# Altium footprint library Main.PcbLib: 25 footprints (part 1 of 2)
Each footprint in its own frame and in the unit in brackets; x right, y up, seen from the top. Pads: shape width x height; smd on the part's side, far side on the other; paste and mask are expansions set on the pad; w line width, h text height; cw(c..) or ccw(c..) is an arc to the next point about the centre after c.
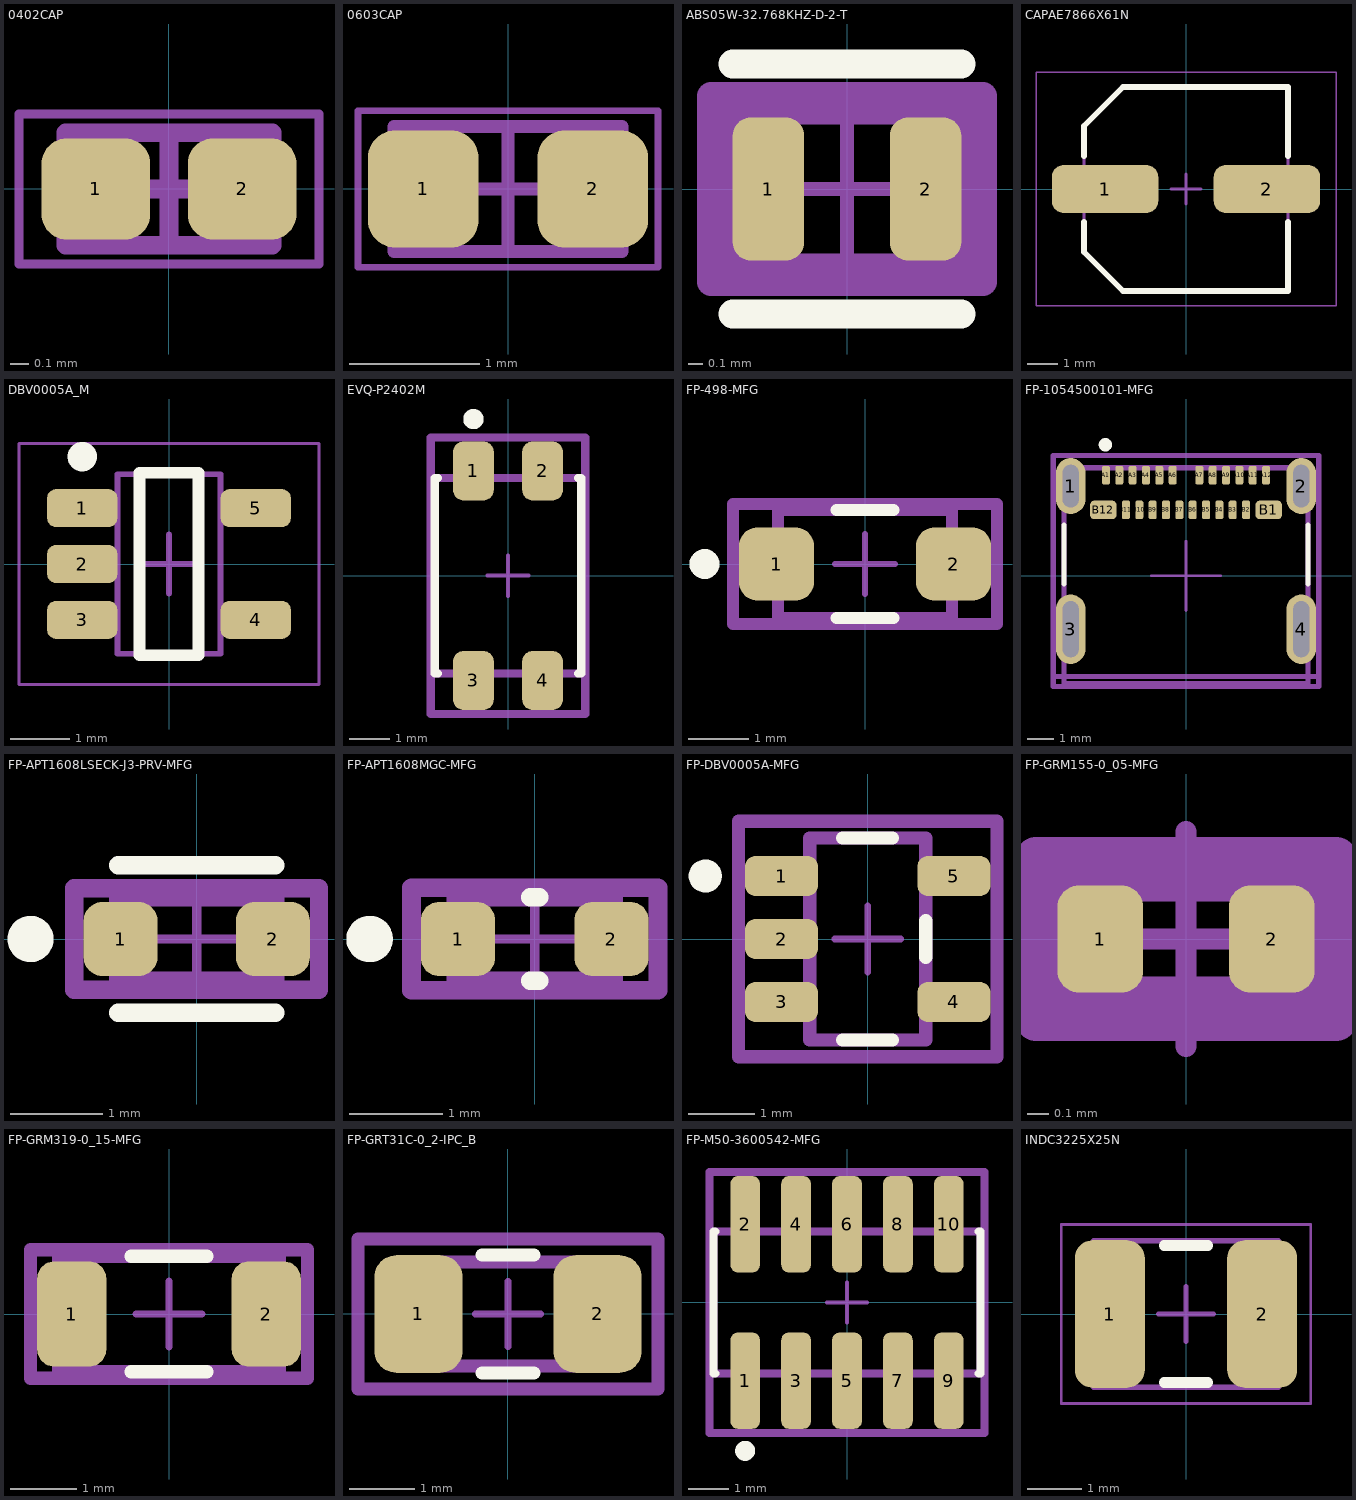
[diagram p0: the footprints below, top view; thin cyan lines are the x and y axes]

## 0402CAP [mm] "0402 Capacitor"
pads (2):
  rrect50% 0.58x0.54 smd: 1(-0.39,0) 2(0.39,0)
Mechanical 13:
  lines w0.1: -0.55,-0.3 0.55,-0.3 0.55,0.3 -0.55,0.3 -0.55,-0.3
Mechanical 15:
  lines w0.05: -0.8,-0.4 0.8,-0.4 0.8,0.4 -0.8,0.4 -0.8,-0.4
  lines w0.1: -0.3,0 0.3,0 ; 0,-0.3 0,0.3
3D body: height 0.56, standoff 0, extent 0.3,-0.3 0.55,0.3
3D body: height 0.56, standoff 0, extent -0.55,-0.3 -0.3,0.3
3D body: height 0.56, standoff 0, extent -0.3,-0.3 0.3,0.3

## 0603CAP [mm] "0603 Capacitor"
pads (2):
  rrect50% 0.85x0.9 smd: 1(-0.65,0) 2(0.65,0)
Mechanical 13:
  lines w0.1: -0.875,-0.48 -0.875,0.48 0.875,0.48 0.875,-0.48 -0.875,-0.48
Mechanical 15:
  lines w0.05: -1.15,-0.6 -1.15,0.6 1.15,0.6 1.15,-0.6 -1.15,-0.6
  lines w0.1: -0.48,0 0.48,0 ; 0,-0.48 0,0.48
3D body: height 0.9, standoff 0, extent -0.525,-0.48 0.525,0.48
3D body: height 0.9, standoff 0, extent -0.875,-0.48 -0.525,0.48
3D body: height 0.9, standoff 0, extent 0.525,-0.48 0.875,0.48

## ABS05W-32.768KHZ-D-2-T [mm]
pads (2):
  rrect50% 0.5x1 smd paste+0: 1(-0.55,0) 2(0.55,0)
Top Overlay:
  lines w0.2: -0.8,-0.875 0.8,-0.875 ; -0.8,0.875 0.8,0.875
Mechanical 5:
  lines w0.2: -0.95,-0.65 -0.95,0.65 0.95,0.65 0.95,-0.65 -0.95,-0.65
Mechanical 13:
  lines w0.2: -0.85,-0.55 -0.85,0.55 0.85,0.55 0.85,-0.55 -0.85,-0.55
Mechanical 15:
  lines w0.2: -0.95,-0.65 -0.95,0.65 0.95,0.65 0.95,-0.65 -0.95,-0.65
Mechanical 16:
  lines w0.1: -0.5,0 0.5,0 ; 0,-0.5 0,0.5
3D body "Crys_Abracon_LLC_ABS05W-32_768KHZ-D-2-T_eec.STEP": height 0.25, standoff 0, extent -0.95,-0.65 0.95,0.65

## CAPAE7866X61N [mm] "Aluminum Electrolytic Capacitor, Body 6.60x6.60x6.10mm, IPC Medium Density"
height 6.1
pads (2):
  rrect50% 3.55x1.6 smd: 1(-2.7,0) 2(2.7,0)
Top Overlay:
  lines w0.2: -3.4,-1.1 -3.4,-2.1 -2.1,-3.4 3.4,-3.4 3.4,-1.1 ; -3.4,1.1 -3.4,2.1 -2.1,3.4 3.4,3.4 3.4,1.1
Mechanical 13:
  lines w0.1: -3.4,-2.1 -2.1,-3.4 3.4,-3.4 3.4,3.4 -2.1,3.4 -3.4,2.1 -3.4,-2.1
Mechanical 15:
  lines w0.05: -5,-3.9 -5,3.9 5,3.9 5,-3.9 -5,-3.9
  lines w0.1: -0.5,0 0.5,0 ; 0,-0.5 0,0.5
3D body "CAPAE7866X61N.step": height 6.1, standoff -0.2, extent -3.9,-3.4 3.9,3.4

## DBV0005A_M [mm] "SOT23, 5-Leads, Body 3.05x1.75mm, Pitch 0.95mm, IPC Low Density"
height 1.45
pads (5):
  rrect50% 1.2x0.65 smd: 1(-1.475,0.95) 2(-1.475,0) 3(-1.475,-0.95) 4(1.475,-0.95) 5(1.475,0.95)
Top Overlay:
  circle w0.25: c-1.475,1.825 r0.125
  lines w0.2: -0.5,-1.55 -0.5,1.55 0.5,1.55 0.5,-1.55 -0.5,-1.55
Mechanical 13:
  lines w0.1: -0.875,-1.525 0.875,-1.525 0.875,1.525 -0.875,1.525 -0.875,-1.525
Mechanical 15:
  lines w0.05: -2.55,-2.05 2.55,-2.05 2.55,2.05 -2.55,2.05 -2.55,-2.05
  lines w0.1: -0.5,0 0.5,0 ; 0,-0.5 0,0.5
3D body "DBV0005AaksMF05A.stp": height 1.08, standoff -0.01, extent -1.422,-1.461 1.422,1.46

## EVQ-P2402M [mm] "Tactile Switch"
pads (4):
  rrect50% 1x1.45 smd paste+0: 1(-0.85,2.575) 2(0.85,2.575) 3(-0.85,-2.575) 4(0.85,-2.575)
Top Overlay:
  circle w0.25: c-0.85,3.85 r0.125
  lines w0.2: -1.725,-2.4 -1.8,-2.4 -1.8,2.4 -1.725,2.4 ; 1.725,-2.4 1.8,-2.4 1.8,2.4 1.725,2.4
Mechanical 5:
  lines w0.2: -1.9,-3.4 1.9,-3.4 1.9,3.4 -1.9,3.4 -1.9,-3.4
Mechanical 13:
  lines w0.2: -1.8,-2.4 1.8,-2.4 1.8,2.4 -1.8,2.4 -1.8,-2.4
Mechanical 15:
  lines w0.2: -1.9,-3.4 1.9,-3.4 1.9,3.4 -1.9,3.4 -1.9,-3.4
Mechanical 16:
  lines w0.1: -0.5,0 0.5,0 ; 0,-0.5 0,0.5
3D body "Switch_Panasonic_Electronic_Components_EVQ-P2402M_eec.STEP": height 0.25, standoff 0, extent -1.9,-3.4 1.9,3.4

## FP-498-MFG [mm]
pads (2):
  rrect50% 1.25x1.22 smd paste+0: 1(-1.475,0) 2(1.475,0)
Top Overlay:
  circle w0.25: c-2.675,0 r0.125
  lines w0.2: -0.475,-0.9 0.475,-0.9 ; -0.475,0.9 0.475,0.9
Mechanical 5:
  lines w0.2: -2.2,-1 2.2,-1 2.2,1 -2.2,1 -2.2,-1
Mechanical 13:
  lines w0.2: -1.45,-0.9 1.45,-0.9 1.45,0.9 -1.45,0.9 -1.45,-0.9
Mechanical 15:
  lines w0.2: -2.2,-1 2.2,-1 2.2,1 -2.2,1 -2.2,-1
Mechanical 16:
  lines w0.1: -0.5,0 0.5,0 ; 0,-0.5 0,0.5
3D body "Diode_ON_Semiconductor_NRVTS245ESFT1G_eec.STEP": height 0.25, standoff 0, extent -2.2,-1 2.2,1

## FP-1054500101-MFG [mm]
pads (28):
  rrect100% 1.1x2.1 hole 1.6 slot 0.6 at 0 deg: 1(-4.32,3.36) 2(4.32,3.36)
  rrect100% 1.1x2.6 hole 2.1 slot 0.6 at 0 deg: 3(-4.32,-2) 4(4.32,-2)
  rrect50% 0.3x0.7 smd: A1(-3,3.77) A2(-2.5,3.77) A3(-2,3.77) A4(-1.5,3.77) A5(-1,3.77) A6(-0.5,3.77) A7(0.5,3.77) A8(1,3.77) A9(1.5,3.77) A10(2,3.77) A11(2.5,3.77) A12(3,3.77) B2(2.25,2.47) B3(1.75,2.47) B4(1.25,2.47) B5(0.75,2.47) B6(0.25,2.47) B7(-0.25,2.47) B8(-0.75,2.47) B9(-1.25,2.47) B10(-1.75,2.47) B11(-2.25,2.47)
  rrect50% 1x0.7 smd: B1(3.1,2.47) B12(-3.1,2.47)
Top Overlay:
  circle w0.25: c-3.02,4.91 r0.125
  lines w0.2: -4.57,-0.3 -4.57,1.9 ; 4.57,-0.3 4.57,1.9
Mechanical 5:
  lines w0.2: -4.97,-4.15 4.97,-4.15 4.97,4.51 -4.97,4.51 -4.97,-4.15
Mechanical 13:
  lines w0.2: -4.97,-3.77 4.97,-3.77 ; -4.57,-4.05 4.57,-4.05 4.57,4.05 -4.57,4.05 -4.57,-4.05
Mechanical 15:
  lines w0.2: -4.97,-4.15 4.97,-4.15 4.97,4.51 -4.97,4.51 -4.97,-4.15
Mechanical 16:
  lines w0.1: -1.299,0 1.299,0 ; 0,-1.299 0,1.299
3D body "1054500101.stp": height 3.23, standoff -0.73, extent -4.47,-3.9 4.47,4

## FP-APT1608LSECK-J3-PRV-MFG [mm]
pads (2):
  rrect50% 0.8x0.8 smd paste+0: 1(-0.825,0) 2(0.825,0)
Top Overlay:
  circle w0.25: c-1.8,0 r0.125
  lines w0.2: -0.85,-0.8 0.85,-0.8 ; -0.85,0.8 0.85,0.8
Mechanical 5:
  lines w0.2: -1.325,-0.55 1.325,-0.55 1.325,0.55 -1.325,0.55 -1.325,-0.55
Mechanical 13:
  lines w0.2: -0.85,-0.45 0.85,-0.45 0.85,0.45 -0.85,0.45 -0.85,-0.45
Mechanical 15:
  lines w0.2: -1.325,-0.55 1.325,-0.55 1.325,0.55 -1.325,0.55 -1.325,-0.55
Mechanical 16:
  lines w0.1: -0.5,0 0.5,0 ; 0,-0.5 0,0.5
3D body "Diode_Kingbright_APT1608LSECK-J3-PRV_eec.STEP": height 0.25, standoff 0, extent -1.325,-0.55 1.325,0.55

## FP-APT1608MGC-MFG [mm]
pads (2):
  rrect50% 0.8x0.8 smd paste+0 mask+0: 1(-0.825,0) 2(0.825,0)
Top Overlay:
  circle w0.25: c-1.775,0 r0.125
  lines w0.2: -0.05,-0.45 0.05,-0.45 ; -0.05,0.45 0.05,0.45
Mechanical 5:
  lines w0.2: -1.325,-0.55 1.325,-0.55 1.325,0.55 -1.325,0.55 -1.325,-0.55
Mechanical 13:
  lines w0.2: -0.85,-0.45 0.85,-0.45 0.85,0.45 -0.85,0.45 -0.85,-0.45
Mechanical 15:
  lines w0.2: -1.325,-0.55 1.325,-0.55 1.325,0.55 -1.325,0.55 -1.325,-0.55
Mechanical 16:
  lines w0.1: -0.5,0 0.5,0 ; 0,-0.5 0,0.5
3D body "Diode_Kingbright_APT1608MGC_eec.STEP": height 0.25, standoff 0, extent -1.325,-0.55 1.325,0.55

## FP-DBV0005A-MFG [mm]
pads (5):
  rrect50% 1.1x0.6 smd paste+0 mask+0: 1(-1.3,0.95) 2(-1.3,0) 3(-1.3,-0.95) 4(1.3,-0.95) 5(1.3,0.95)
Top Overlay:
  circle w0.25: c-2.45,0.95 r0.125
  lines w0.2: -0.375,-1.525 0.375,-1.525 ; -0.375,1.525 0.375,1.525 ; 0.875,-0.275 0.875,0.275
Mechanical 5:
  lines w0.2: -1.95,-1.775 1.95,-1.775 1.95,1.775 -1.95,1.775 -1.95,-1.775
Mechanical 13:
  lines w0.2: -0.875,-1.525 0.875,-1.525 0.875,1.525 -0.875,1.525 -0.875,-1.525
Mechanical 15:
  lines w0.2: -1.95,-1.775 1.95,-1.775 1.95,1.775 -1.95,1.775 -1.95,-1.775
Mechanical 16:
  lines w0.1: -0.5,0 0.5,0 ; 0,-0.5 0,0.5
3D body "IC_Texas_Instruments_SN65LVDT2DBVT_eec.STEP": height 0.25, standoff 0, extent -1.95,-1.775 1.95,1.775

## FP-GRM155-0_05-MFG [mm]
pads (2):
  rrect50% 0.4x0.5 smd paste+0 mask+0: 1(-0.4,0) 2(0.4,0)
Mechanical 5:
  lines w0.2: -0.7,-0.375 -0.7,0.375 0.7,0.375 0.7,-0.375 -0.7,-0.375
Mechanical 13:
  lines w0.2: -0.525,-0.275 -0.525,0.275 0.525,0.275 0.525,-0.275 -0.525,-0.275
Mechanical 15:
  lines w0.2: -0.7,-0.375 -0.7,0.375 0.7,0.375 0.7,-0.375 -0.7,-0.375
Mechanical 16:
  lines w0.1: -0.5,0 0.5,0 ; 0,-0.5 0,0.5
3D body "Cap_Murata_GRM1552C1H271GA01J_eec.STEP": height 0.25, standoff 0, extent -0.7,-0.375 0.7,0.375

## FP-GRM319-0_15-MFG [mm]
pads (2):
  rrect50% 1.05x1.6 smd paste+0 mask+0: 1(-1.475,0) 2(1.475,0)
Top Overlay:
  lines w0.2: -0.575,-0.875 0.575,-0.875 ; -0.575,0.875 0.575,0.875
Mechanical 5:
  lines w0.2: -2.1,-0.975 -2.1,0.975 2.1,0.975 2.1,-0.975 -2.1,-0.975
Mechanical 13:
  lines w0.2: -1.675,-0.875 -1.675,0.875 1.675,0.875 1.675,-0.875 -1.675,-0.875
Mechanical 15:
  lines w0.2: -2.1,-0.975 -2.1,0.975 2.1,0.975 2.1,-0.975 -2.1,-0.975
Mechanical 16:
  lines w0.1: -0.5,0 0.5,0 ; 0,-0.5 0,0.5
3D body "Cap_Murata_GRM3195C1H273JA01D_eec.STEP": height 0.25, standoff 0, extent -2.1,-0.975 2.1,0.975

## FP-GRT31C-0_2-IPC_B [mm]
pads (2):
  rrect50% 1.355x1.806 smd paste+0 mask+0: 1(-1.376,0) 2(1.376,0)
Top Overlay:
  lines w0.2: -0.398,-0.903 0.398,-0.903 ; -0.398,0.903 0.398,0.903
Mechanical 5:
  lines w0.2: -2.303,-1.153 2.303,-1.153 2.303,1.153 -2.303,1.153 -2.303,-1.153
Mechanical 13:
  lines w0.2: -1.6,-0.8 1.6,-0.8 1.6,0.8 -1.6,0.8 -1.6,-0.8
Mechanical 15:
  lines w0.2: -2.303,-1.153 2.303,-1.153 2.303,1.153 -2.303,1.153 -2.303,-1.153
Mechanical 16:
  lines w0.1: -0.5,0 0.5,0 ; 0,-0.5 0,0.5
3D body "Cap_Murata_GRT31CC80J476KE13L_eec.STEP": height 0.25, standoff 0, extent -2.303,-1.153 2.303,1.153

## FP-M50-3600542-MFG [mm]
pads (10):
  rrect50% 0.74x2.4 smd paste+0 mask+0: 1(-2.54,-1.95) 2(-2.54,1.95) 3(-1.27,-1.95) 4(-1.27,1.95) 5(0,-1.95) 6(0,1.95) 7(1.27,-1.95) 8(1.27,1.95) 9(2.54,-1.95) 10(2.54,1.95)
Top Overlay:
  circle w0.25: c-2.54,-3.7 r0.125
  lines w0.2: -3.285,-1.775 -3.325,-1.775 -3.325,1.775 -3.285,1.775 ; 3.285,-1.775 3.325,-1.775 3.325,1.775 3.285,1.775
Mechanical 5:
  lines w0.2: -3.425,-3.25 -3.425,3.25 3.425,3.25 3.425,-3.25 -3.425,-3.25
Mechanical 13:
  lines w0.2: -3.325,-1.775 -3.325,1.775 3.325,1.775 3.325,-1.775 -3.325,-1.775
Mechanical 15:
  lines w0.2: -3.425,-3.25 -3.425,3.25 3.425,3.25 3.425,-3.25 -3.425,-3.25
Mechanical 16:
  lines w0.1: -0.5,0 0.5,0 ; 0,-0.5 0,0.5
3D body "Conn_Harwin_M50-3600542_eec.STEP": height 0.25, standoff 0, extent -3.425,-3.25 3.425,3.25

## INDC3225X25N [mm] "Chip Inductor, 2-Leads, Body 3.20x2.50mm, IPC Medium Density"
height 2.5
pads (2):
  rrect50% 1.29x2.72 smd: 1(-1.405,0) 2(1.405,0)
Top Overlay:
  lines w0.2: -0.4,-1.26 0.4,-1.26 ; -0.4,1.26 0.4,1.26
Mechanical 13:
  lines w0.1: -1.7,-1.35 1.7,-1.35 1.7,1.35 -1.7,1.35 -1.7,-1.35
Mechanical 15:
  lines w0.05: -2.3,-1.65 2.3,-1.65 2.3,1.65 -2.3,1.65 -2.3,-1.65
  lines w0.1: -0.5,0 0.5,0 ; 0,-0.5 0,0.5
3D body "INDC3225X25N.step": height 2.5, standoff 0, extent -1.7,-1.35 1.7,1.35